# EAGLE library part ADXL202 (library andereBauteile)
ADXL202 +-2g Beschleunigungssensor 2 Achsen PWM - Ausgangssignal
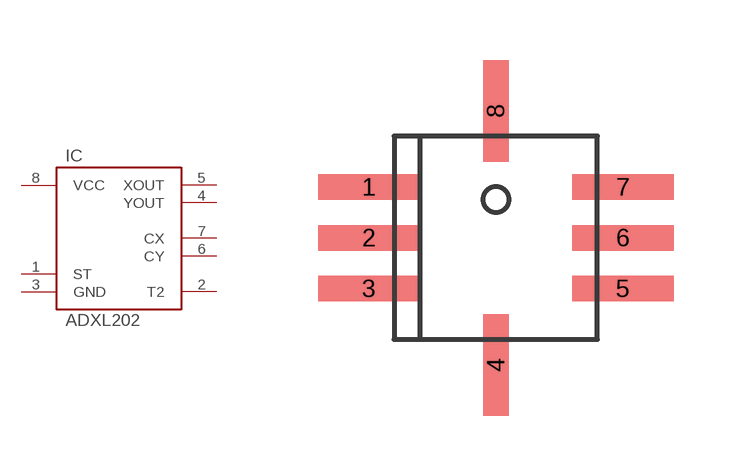
[diagram p18: symbol with the pads of CLCC-8; footprint CLCC-8]

Designator prefix IC

## ADXL202E  [CLCC-8]
1  ST
2  T2
3  GND  pwr
4  YOUT  out
5  XOUT  out
6  CY
7  CX
8  VCC  pwr

## Footprint CLCC-8 (pad centres in mm)
smd 2.54 x 0.635: 1 -3.175,1.27; 2 -3.175,0; 3 -3.175,-1.27; 5 3.175,-1.27; 6 3.175,0; 7 3.175,1.27
smd 0.635 x 2.54: 4 0,-3.175; 8 0,3.175